# EAGLE library part AD8330ARQZ (library AD8330ARQZ-R7)
Variable Gain Amplifier
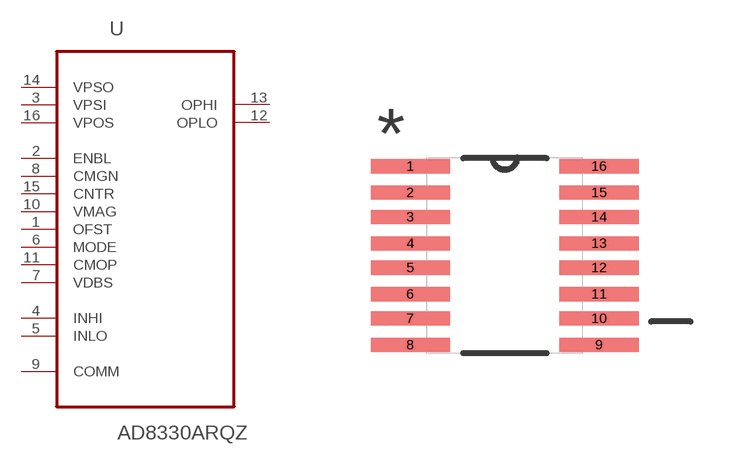
[diagram p0: symbol with the pads of SOP63P600X175-16N; footprint SOP63P600X175-16N]

Designator prefix U

## AD8330ARQZ (MPN: AD8330ARQZ; OC_FARNELL: 9994491; OC_NEWARK: 19M1199; PACKAGE: QSOP-16; SUPPLIER: ANALOG DEVICES)  [SOP63P600X175-16N]
1  OFST  pas
2  ENBL  in
3  VPSI  pwr
4  INHI  in
5  INLO  in
6  MODE  in
7  VDBS  in
8  CMGN  pas
9  COMM  in
10  VMAG  in
11  CMOP  pas
12  OPLO  out
13  OPHI  out
14  VPSO  pwr
15  CNTR  in
16  VPOS  pwr

## Footprint SOP63P600X175-16N (pad centres in mm)
smd 1.981 x 0.356: 1 -2.362,2.235; 2 -2.362,1.575; 3 -2.362,0.965; 4 -2.362,0.305; 5 -2.362,-0.305; 6 -2.362,-0.965; 7 -2.362,-1.575; 8 -2.362,-2.235; 9 2.362,-2.235; 10 2.362,-1.575; 11 2.362,-0.965; 12 2.362,-0.305; 13 2.362,0.305; 14 2.362,0.965; 15 2.362,1.575; 16 2.362,2.235